# Altium schematic symbol library SCH - MCU - STM32 - ST MICROELECTRONICS STM32F412R(E-G)YX WLCSP64.SchLib: 1 symbol
Pins are listed as number, name and electrical type; pins without a type are passive.

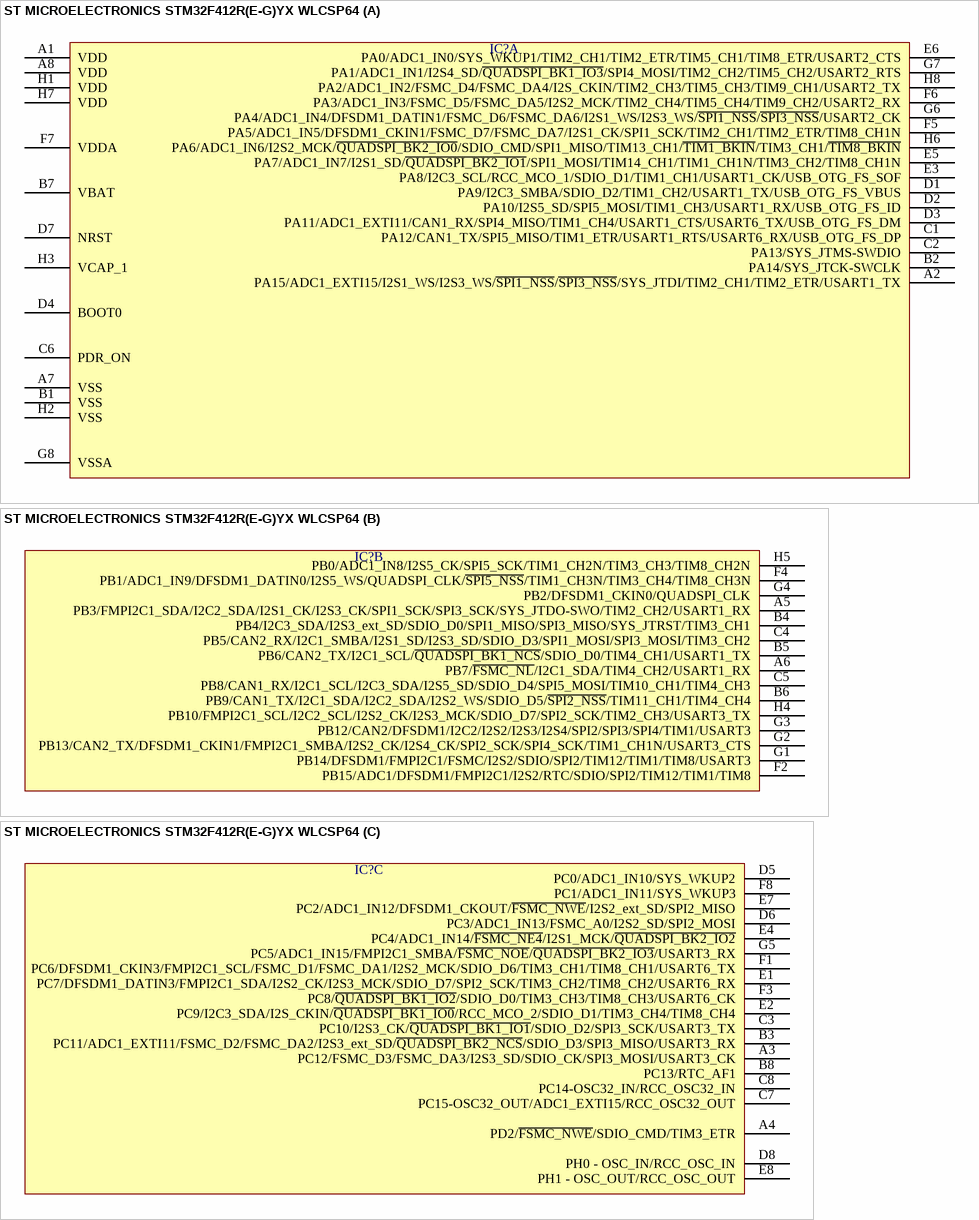
[diagram p0: symbol ST MICROELECTRONICS STM32F412R(E-G)YX WLCSP64]

## ST MICROELECTRONICS STM32F412R(E-G)YX WLCSP64
designator IC?  (value not drawn)
part A pins: A1 VDD, A2 PA15/ADC1_EXTI15/I2S1_WS/I2S3_WS/~{SPI1_NSS}/~{SPI3_NSS}/SYS_JTDI/TIM2_CH1/TIM2_ETR/USART1_TX, A7 VSS, A8 VDD, B1 VSS, B2 PA14/SYS_JTCK-SWCLK, B7 VBAT, C1 PA12/CAN1_TX/SPI5_MISO/TIM1_ETR/USART1_RTS/USART6_RX/USB_OTG_FS_DP, C2 PA13/SYS_JTMS-SWDIO, C6 PDR_ON, D1 PA9/I2C3_SMBA/SDIO_D2/TIM1_CH2/USART1_TX/USB_OTG_FS_VBUS, D2 PA10/I2S5_SD/SPI5_MOSI/TIM1_CH3/USART1_RX/USB_OTG_FS_ID, D3 PA11/ADC1_EXTI11/CAN1_RX/SPI4_MISO/TIM1_CH4/USART1_CTS/USART6_TX/USB_OTG_FS_DM, D4 BOOT0, D7 NRST, E3 PA8/I2C3_SCL/RCC_MCO_1/SDIO_D1/TIM1_CH1/USART1_CK/USB_OTG_FS_SOF, E5 PA7/ADC1_IN7/I2S1_SD/~{QUADSPI_BK2_IO1}/SPI1_MOSI/TIM14_CH1/TIM1_CH1N/TIM3_CH2/TIM8_CH1N, E6 PA0/ADC1_IN0/SYS_WKUP1/TIM2_CH1/TIM2_ETR/TIM5_CH1/TIM8_ETR/USART2_CTS, F5 PA5/ADC1_IN5/DFSDM1_CKIN1/FSMC_D7/FSMC_DA7/I2S1_CK/SPI1_SCK/TIM2_CH1/TIM2_ETR/TIM8_CH1N, F6 PA3/ADC1_IN3/FSMC_D5/FSMC_DA5/I2S2_MCK/TIM2_CH4/TIM5_CH4/TIM9_CH2/USART2_RX, F7 VDDA, G6 PA4/ADC1_IN4/DFSDM1_DATIN1/FSMC_D6/FSMC_DA6/I2S1_WS/I2S3_WS/~{SPI1_NSS}/~{SPI3_NSS}/USART2_CK, G7 PA1/ADC1_IN1/I2S4_SD/~{QUADSPI_BK1_IO3}/SPI4_MOSI/TIM2_CH2/TIM5_CH2/USART2_RTS, G8 VSSA, H1 VDD, H2 VSS, H3 VCAP_1, H6 PA6/ADC1_IN6/I2S2_MCK/~{QUADSPI_BK2_IO0}/SDIO_CMD/SPI1_MISO/TIM13_CH1/~{TIM1_BKIN}/TIM3_CH1/~{TIM8_BKIN}, H7 VDD, H8 PA2/ADC1_IN2/FSMC_D4/FSMC_DA4/I2S_CKIN/TIM2_CH3/TIM5_CH3/TIM9_CH1/USART2_TX
part B pins: A5 PB3/FMPI2C1_SDA/I2C2_SDA/I2S1_CK/I2S3_CK/SPI1_SCK/SPI3_SCK/SYS_JTDO-SWO/TIM2_CH2/USART1_RX, A6 PB7/~{FSMC_NL}/I2C1_SDA/TIM4_CH2/USART1_RX, B4 PB4/I2C3_SDA/I2S3_ext_SD/SDIO_D0/SPI1_MISO/SPI3_MISO/SYS_JTRST/TIM3_CH1, B5 PB6/CAN2_TX/I2C1_SCL/~{QUADSPI_BK1_NCS}/SDIO_D0/TIM4_CH1/USART1_TX, B6 PB9/CAN1_TX/I2C1_SDA/I2C2_SDA/I2S2_WS/SDIO_D5/~{SPI2_NSS}/TIM11_CH1/TIM4_CH4, C4 PB5/CAN2_RX/I2C1_SMBA/I2S1_SD/I2S3_SD/SDIO_D3/SPI1_MOSI/SPI3_MOSI/TIM3_CH2, C5 PB8/CAN1_RX/I2C1_SCL/I2C3_SDA/I2S5_SD/SDIO_D4/SPI5_MOSI/TIM10_CH1/TIM4_CH3, F2 PB15/ADC1/DFSDM1/FMPI2C1/I2S2/RTC/SDIO/SPI2/TIM12/TIM1/TIM8, F4 PB1/ADC1_IN9/DFSDM1_DATIN0/I2S5_WS/QUADSPI_CLK/~{SPI5_NSS}/TIM1_CH3N/TIM3_CH4/TIM8_CH3N, G1 PB14/DFSDM1/FMPI2C1/FSMC/I2S2/SDIO/SPI2/TIM12/TIM1/TIM8/USART3, G2 PB13/CAN2_TX/DFSDM1_CKIN1/FMPI2C1_SMBA/I2S2_CK/I2S4_CK/SPI2_SCK/SPI4_SCK/TIM1_CH1N/USART3_CTS, G3 PB12/CAN2/DFSDM1/I2C2/I2S2/I2S3/I2S4/SPI2/SPI3/SPI4/TIM1/USART3, G4 PB2/DFSDM1_CKIN0/QUADSPI_CLK, H4 PB10/FMPI2C1_SCL/I2C2_SCL/I2S2_CK/I2S3_MCK/SDIO_D7/SPI2_SCK/TIM2_CH3/USART3_TX, H5 PB0/ADC1_IN8/I2S5_CK/SPI5_SCK/TIM1_CH2N/TIM3_CH3/TIM8_CH2N
part C pins: A3 PC12/FSMC_D3/FSMC_DA3/I2S3_SD/SDIO_CK/SPI3_MOSI/USART3_CK, A4 PD2/~{FSMC_NWE}/SDIO_CMD/TIM3_ETR, B3 PC11/ADC1_EXTI11/FSMC_D2/FSMC_DA2/I2S3_ext_SD/~{QUADSPI_BK2_NCS}/SDIO_D3/SPI3_MISO/USART3_RX, B8 PC13/RTC_AF1, C3 PC10/I2S3_CK/~{QUADSPI_BK1_IO1}/SDIO_D2/SPI3_SCK/USART3_TX, C7 PC15-OSC32_OUT/ADC1_EXTI15/RCC_OSC32_OUT, C8 PC14-OSC32_IN/RCC_OSC32_IN, D5 PC0/ADC1_IN10/SYS_WKUP2, D6 PC3/ADC1_IN13/FSMC_A0/I2S2_SD/SPI2_MOSI, D8 PH0 - OSC_IN/RCC_OSC_IN, E1 PC7/DFSDM1_DATIN3/FMPI2C1_SDA/I2S2_CK/I2S3_MCK/SDIO_D7/SPI2_SCK/TIM3_CH2/TIM8_CH2/USART6_RX, E2 PC9/I2C3_SDA/I2S_CKIN/~{QUADSPI_BK1_IO0}/RCC_MCO_2/SDIO_D1/TIM3_CH4/TIM8_CH4, E4 PC4/ADC1_IN14/~{FSMC_NE4}/I2S1_MCK/~{QUADSPI_BK2_IO2}, E7 PC2/ADC1_IN12/DFSDM1_CKOUT/~{FSMC_NWE}/I2S2_ext_SD/SPI2_MISO, E8 PH1 - OSC_OUT/RCC_OSC_OUT, F1 PC6/DFSDM1_CKIN3/FMPI2C1_SCL/FSMC_D1/FSMC_DA1/I2S2_MCK/SDIO_D6/TIM3_CH1/TIM8_CH1/USART6_TX, F3 PC8/~{QUADSPI_BK1_IO2}/SDIO_D0/TIM3_CH3/TIM8_CH3/USART6_CK, F8 PC1/ADC1_IN11/SYS_WKUP3, G5 PC5/ADC1_IN15/FMPI2C1_SMBA/~{FSMC_NOE}/~{QUADSPI_BK2_IO3}/USART3_RX